# EAGLE library part AD5290YRMZ10-R7 (library AD5290YRMZ10-R7)
Digital Potentiometer ICs +/-15V 8-Bit DigiPOT Source: Datasheet
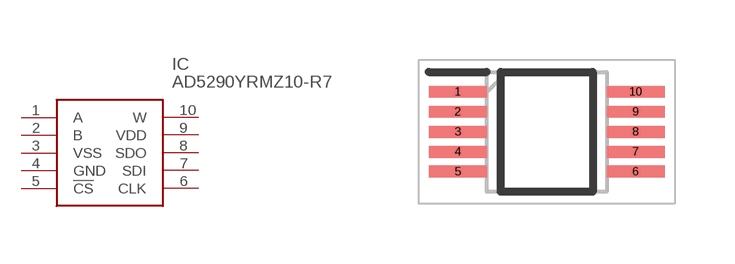
[diagram p0: symbol with the pads of SOP50P490X110-10N; footprint SOP50P490X110-10N]

Designator prefix IC

## AD5290YRMZ10-R7 (Description: Digital Potentiometer ICs +/-15V 8-Bit DigiPOT; Height: 1.1mm; Manufacturer_Name: Analog Devices; Manufacturer_Part_Number: AD5290YRMZ10-R7; Mouser_Part_Number: 584-AD5290YRMZ10-R7; Mouser_Price-Stock: https://www.mouser.co.uk/ProductDetail/Analog-Devices/AD5290YRMZ10-R7?qs=NmRFExCfTkERE1iuOsYtFg%3D%3D)  [SOP50P490X110-10N]
1  A
2  B
3  VSS
4  GND
5  !CS
6  CLK
7  SDI
8  SDO
9  VDD
10  W

## Footprint SOP50P490X110-10N (pad centres in mm)
RM-10
smd 1.45 x 0.3: 1 -2.225,1; 2 -2.225,0.5; 3 -2.225,0; 4 -2.225,-0.5; 5 -2.225,-1; 6 2.225,-1; 7 2.225,-0.5; 8 2.225,0; 9 2.225,0.5; 10 2.225,1